# Altium integrated library TF_card.IntLib: 1 symbol
Pins are listed as number, name and electrical type; pins without a type are passive.

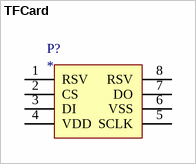
[diagram p0: symbol TFCard]

## TFCard
designator P?
footprint TF_card
pins: 1 RSV, 2 CS, 3 DI, 4 VDD, 5 SCLK, 6 VSS, 7 DO, 8 RSV